# Altium schematic symbol library ushio_rp2040.SchLib: 44 symbols (part 2 of 2)
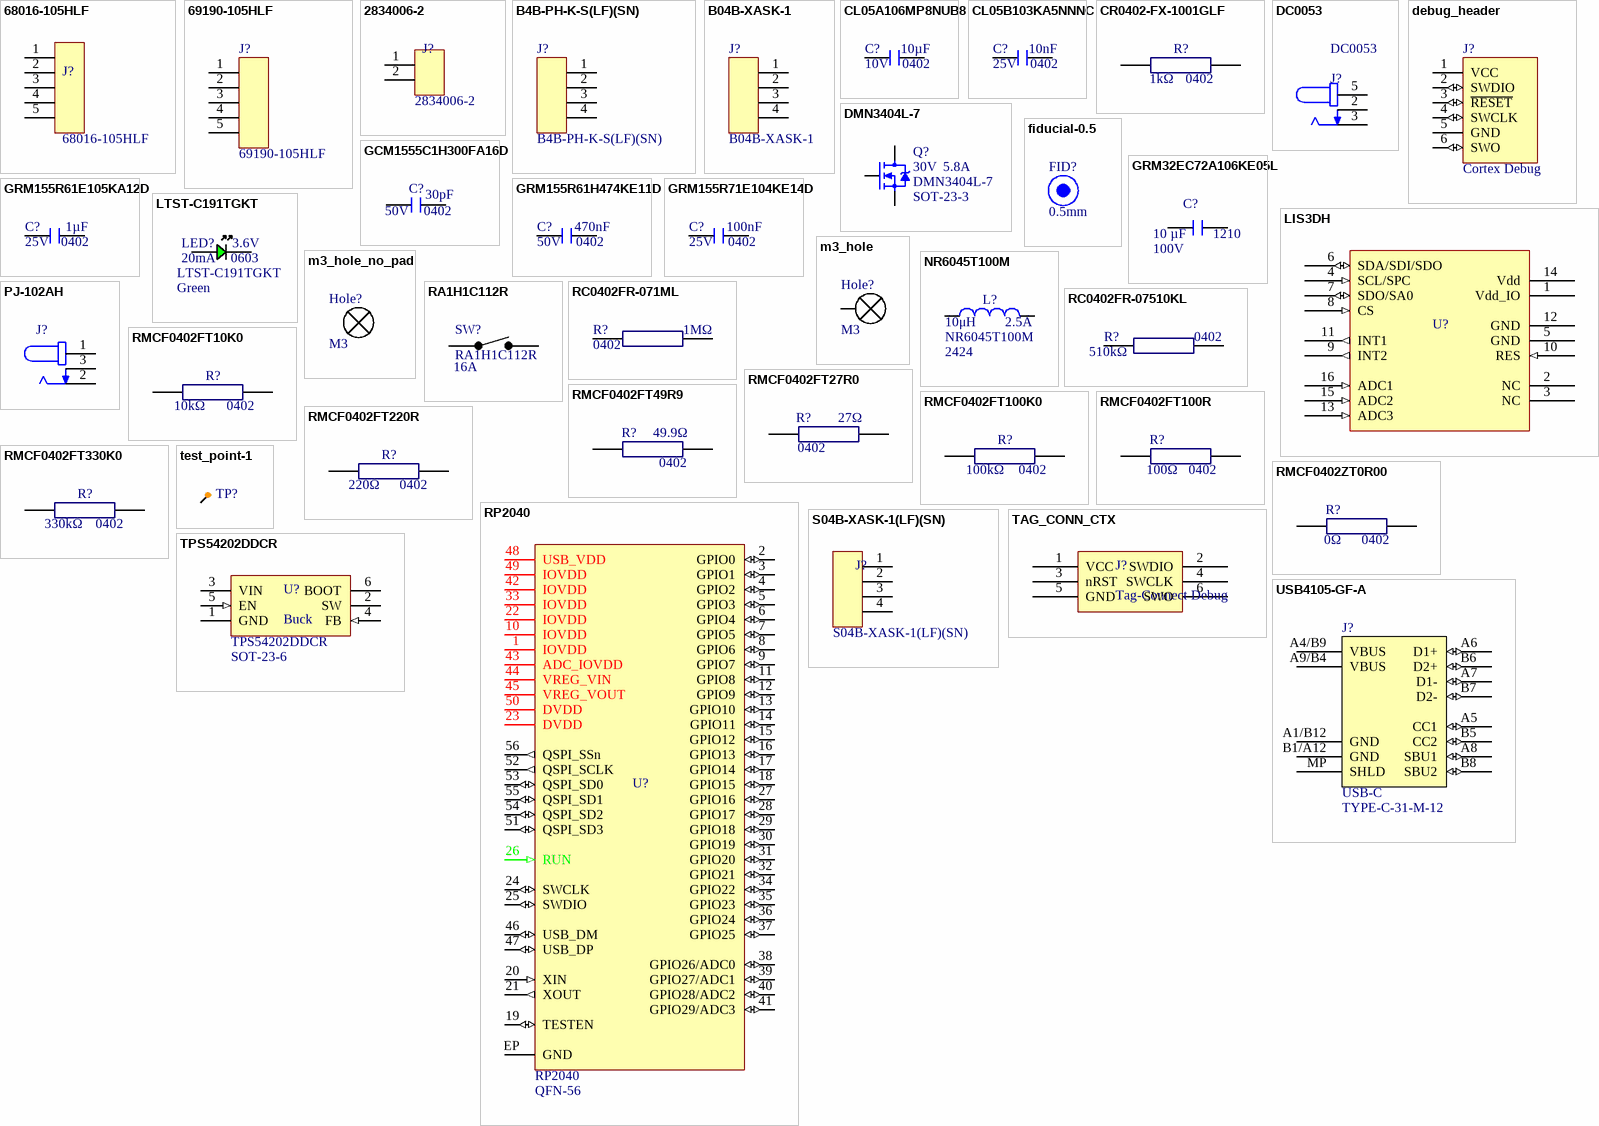
[diagram p2: symbols 68016-105HLF to USB4105-GF-A]

## RMCF0402FT220R
designator R?  Resistance: 220Ω  Case Code (Imperial): 0402  (hidden comment: RMCF0402FT220R)
220Ω, 0402 Chip resistor; Manufacturer: Stackpole Electronics; Manufacturer Part Number: RMCF0402FT390R; house_part_number: R-220-0402-1%-001; Tolerance: 1%; Max Power Dissipation: 63mW; Temperature Coefficient: 100ppm/°C; Supplier 1: Digi-Key; RoHS: Yes; Category: Chip SMD Resistors; Stock 1: 15771; Pricing 1: 1=0.10000, 10=0.01300, 100=0.00530, 1000=0.00239, 2500=0.00207, 5000=0.00171 (USD); Mount: Surface Mount; Case/Package: 0402; Case Code (Metric): 1005; Contact Plating: Tin,Matte; Min Operating Temperature: -55°C; Max Operating Temperature: 155°C; Packaging: Tape and Reel; Resistor Type: Thick Film; Number of Terminations: 2; Features: Automotive AEC-Q200; Series: RMCF; Length: 0.039inch; Width: 0.02inch; Height: 0.016inch; Radiation Hardening: No; Lead Free: Lead Free; RoHS Compliant: Yes; ComponentLink1URL: https://www.seielect.com/catalog/SEI-Packaging.pdf?src-supplier=Digi-Key; ComponentLink1Description: https://www.seielect.com/catalog/SEI-Packaging.pdf?src-supplier=Digi-Key; ComponentLink2URL: https://www.seielect.com/Catalog/SEI-RMCF_RMCP.pdf?src-supplier=Digi-Key; ComponentLink2Description: https://www.seielect.com/Catalog/SEI-RMCF_RMCP.pdf?src-supplier=Digi-Key; ComponentLink3URL: https://www.seielect.com/catalog/SEI-RMCF_RMCP.pdf?src-supplier=Avnet; ComponentLink3Description: https://www.seielect.com/catalog/SEI-RMCF_RMCP.pdf?src-supplier=Avnet; Supplier Part Number 1: RMCF0402FT390RCT-ND
footprint 0402_resistor (0402 chip resistor)
pins: 1, 2

## RMCF0402FT330K0
designator R?  Resistance: 330kΩ  Case Code (Imperial): 0402  (hidden comment: RMCF0402FT330K0)
330 kΩ, 0402 Chip resistor; Manufacturer: Stackpole Electronics; Manufacturer Part Number: RMCF0402FT390R; house_part_number: R-330k-0402-1%-001; Tolerance: 1%; Max Power Dissipation: 63mW; Temperature Coefficient: 100ppm/°C; Supplier 1: Digi-Key; RoHS: Yes; Category: Chip SMD Resistors; Stock 1: 15771; Pricing 1: 1=0.10000, 10=0.01300, 100=0.00530, 1000=0.00239, 2500=0.00207, 5000=0.00171 (USD); Mount: Surface Mount; Case/Package: 0402; Case Code (Metric): 1005; Contact Plating: Tin,Matte; Min Operating Temperature: -55°C; Max Operating Temperature: 155°C; Packaging: Tape and Reel; Resistor Type: Thick Film; Number of Terminations: 2; Features: Automotive AEC-Q200; Series: RMCF; Length: 0.039inch; Width: 0.02inch; Height: 0.016inch; Radiation Hardening: No; Lead Free: Lead Free; RoHS Compliant: Yes; ComponentLink1URL: https://www.seielect.com/catalog/SEI-Packaging.pdf?src-supplier=Digi-Key; ComponentLink1Description: https://www.seielect.com/catalog/SEI-Packaging.pdf?src-supplier=Digi-Key; ComponentLink2URL: https://www.seielect.com/Catalog/SEI-RMCF_RMCP.pdf?src-supplier=Digi-Key; ComponentLink2Description: https://www.seielect.com/Catalog/SEI-RMCF_RMCP.pdf?src-supplier=Digi-Key; ComponentLink3URL: https://www.seielect.com/catalog/SEI-RMCF_RMCP.pdf?src-supplier=Avnet; ComponentLink3Description: https://www.seielect.com/catalog/SEI-RMCF_RMCP.pdf?src-supplier=Avnet; Supplier Part Number 1: RMCF0402FT390RCT-ND
footprint 0402_resistor (0402 chip resistor)
pins: 1, 1, 2, 2

## RMCF0402ZT0R00
designator R?  Resistance: 0Ω  Case/Package: 0402  (hidden comment: RMCF0402ZT0R00)
0 Ω, 0402 Jumper; Manufacturer: Stackpole Electronics; house_part_number: JP-0402-001; Power Rating: 63mW; Current Rating: 1A; Working Voltage: 50V; Supplier 1: Digi-Key; Supplier Part Number 1: RMCF0402ZT0R00CT-ND; RoHS: Yes; Category: Chip SMD Resistors; Stock 1: 6500003; Pricing 1: 1=0.10000, 10=0.01000, 25=0.00720, 50=0.00560, 100=0.00410, 250=0.00316, 500=0.00252, 1000=0.00186, 5000=0.00133 (USD); Mount: Surface Mount; Case Code (Metric): 1005; Case Code (Imperial): 0402; Contact Plating: Tin,Matte; Min Operating Temperature: -55°C; Max Operating Temperature: 155°C; Packaging: Tape and Reel; Resistor Type: Thick Film; Number of Terminations: 2; Max Power Dissipation: 63mW; Features: Automotive AEC-Q200; Series: RMCF; Technology: THICK FILM; Construction: Rectangular; Length: 0.039inch; Width: 0.02inch; Height: 0.016inch; Depth: 0.5mm; Radiation Hardening: No; Military Standard: Not; Lead Free: Lead Free; RoHS Compliant: Yes; ComponentLink1URL: https://datasheet.ciiva.com/26835/getdatasheetpartid-409751-26835612.pdf?src-supplier=Verical; ComponentLink1Description: https://datasheet.ciiva.com/26835/getdatasheetpartid-409751-26835612.pdf?src-supplier=Verical; Manufacturer Part Number: RMCF0402ZT0R00
footprint 0402_resistor (0402 chip resistor)
pins: 1, 2

## RP2040
designator U?  Manufacturer Part Number: RP2040  Package: QFN-56
Raspberry Pi microcontroller, QFN-56; Manufacturer: Raspberry Pi; Supplier: Newark; Supplier Part Number: 49AJ8739; RoHS: No; Category: Uncategorized; Stock: 720; Pricing: 1=1 (USD)
footprint QFN-56
pins: 1 IOVDD (power), 2 GPIO0 (io), 3 GPIO1 (io), 4 GPIO2 (io), 5 GPIO3 (io), 6 GPIO4 (io), 7 GPIO5 (io), 8 GPIO6 (io), 9 GPIO7 (io), 10 IOVDD (power), 11 GPIO8 (io), 12 GPIO9 (io), 13 GPIO10 (io), 14 GPIO11 (io), 15 GPIO12 (io), 16 GPIO13 (io), 17 GPIO14 (io), 18 GPIO15 (io), 19 TESTEN (io), 20 XIN (in), 21 XOUT (out), 22 IOVDD (power), 23 DVDD (power), 24 SWCLK (io), 25 SWDIO (io), 26 RUN (in), 27 GPIO16 (io), 28 GPIO17 (io), 29 GPIO18 (io), 30 GPIO19 (io), 31 GPIO20 (io), 32 GPIO21 (io), 33 IOVDD (power), 34 GPIO22 (io), 35 GPIO23 (io), 36 GPIO24 (io), 37 GPIO25 (io), 38 GPIO26/ADC0 (io), 39 GPIO27/ADC1 (io), 40 GPIO28/ADC2 (io), 41 GPIO29/ADC3 (io), 42 IOVDD (power), 43 ADC_IOVDD (power), 44 VREG_VIN (power), 45 VREG_VOUT (power), 46 USB_DM (io), 47 USB_DP (io), 48 USB_VDD (power), 49 IOVDD (power), 50 DVDD (power), 51 QSPI_SD3 (io), 52 QSPI_SCLK (out), 53 QSPI_SD0 (io), 54 QSPI_SD2 (io), 55 QSPI_SD1 (io), 56 QSPI_SSn (out), EP GND (power)

## S04B-XASK-1(LF)(SN)
designator J?  Manufacturer Part Number: S04B-XASK-1(LF)(SN)  (hidden comment: *)
XA Series 4 Position 2.5 mm Side Entry Through-Hole Shrouded Header; Manufacturer: JST; Number of Poles: 4; Current Rating: 3A; Contact Resistance: 10mR; Voltage Rating (AC): 250V; Insulation Resistance: 1GR; Gender: Male; Pitch: 2.5mm; Wire/Cable Gauge: 20AWG; Lead Length: 3.4mm; Supplier: Arrow Electronics; Supplier Part Number: S04B-XASK-1(LF)(SN); RoHS: Yes; Category: Headers and Wire Housings; Stock: 13562; Pricing: 1=0.5096, 10=0.4564, 25=0.4517, 50=0.4469, 100=0.364, 500=0.2293 (USD); Mounting Technology: Through Hole,PCB; Pins: 4; Contact Plating: Tin; Contact Material: Copper Alloy,Tin,Bronze,Copper; Color: Beige; Material: Nylon; Contact Shape: Circular; Contact Finish - Mating: TIN; Insulation Material: Nylon; Insulation Color: Natural; Min Operating Temperature: -25°C; Max Operating Temperature: 85°C; Number of Rows: 1; Voltage Rating (DC): 250V; Voltage Rating: 250V; Termination: Solder; Number of Contacts: 4; Number of Positions: 4; Orientation: Right Angle; Series: XA; Connector Type: Header; Fastening Type: Ramp; Packaging: Bulk; Contact Type: Male Pin; Length: 12.5mm; Width: 12.6mm; Height: 7.6mm; Lead Free: Lead Free; Reach SVHC Compliant: No; Flammability Rating: UL94 V-0; ComponentLink1URL: https://datasheet.ciiva.com/29316/741407-da-01-en-stiftleiste-abgew-4-pol-rm-2-5mm-29316948.pdf?src-supplier=Conrad; ComponentLink1Description: https://datasheet.ciiva.com/29316/741407-da-01-en-stiftleiste-abgew-4-pol-rm-2-5mm-29316948.pdf?src-supplier=Conrad; ComponentLink2URL: https://datasheet.ciiva.com/8052/80585-8052159.pdf?src-supplier=Element14; ComponentLink2Description: https://datasheet.ciiva.com/8052/80585-8052159.pdf?src-supplier=Element14; ComponentLink3URL: https://datasheet.ciiva.com/16364/exa1-16364429.pdf?src-supplier=Future+Electronics; ComponentLink3Description: https://datasheet.ciiva.com/16364/exa1-16364429.pdf?src-supplier=Future+Electronics
footprint S04B-XASK-1 (JST XA 2.5mm header, right angle)
pins: 1, 2, 3, 4

## TAG_CONN_CTX
designator J?, comment Tag-Connect Debug
Mates with TC-2030-CTX; house_part_number: type-value-case-grade
footprint TAG-Connect (Debug header)
pins: 1 VCC, 2 SWDIO, 3 nRST, 4 SWCLK, 5 GND, 6 SWO

## test_point-1
designator TP?  (value not drawn)  (no BOM)
Test point; pickable: no
footprint test_point-1 (Test point)
pins: 1

## TPS54202DDCR
designator U?, comment Buck  Case/Package: SOT-23-6  Manufacturer Part Number: TPS54202DDCR
Switching Regulator, Current-mode, 2A, 500kHz Switching Freq-Max, PDSO6; Manufacturer: Texas Instruments; Package Body Material: Plastic; Control Technique: PULSE WIDTH MODULATION; Max Supply Voltage: 28V; Min Input Voltage: 4.5V; Nominal Supply Voltage: 12V; Channels: 1; Max Output current: 3.9A; Frequency: 590kHz; Supplier 1: Digi-Key; RoHS: Yes; Category: Voltage Regulators - Switching; Stock 1: 4766; Pricing 1: 1=1.29, 10=1.154, 25=1.0956, 100=0.9001, 250=0.8414, 500=0.74356, 1000=0.58702 (USD); Pins: 6; Package Shape: Rectangular; Terminal Finish: Tin; Min Operating Temperature: -40°C; Max Operating Temperature: 125°C; JESD-609 Code: e3; Throw Configuration: SWITCHING REGULATOR; Control Mode: CURRENT-MODE; JESD-30 Code: R-PDSO-G6; Moisture Sensitivity Level: 1; Package Style: SMALL OUTLINE, THIN PROFILE, SHRINK PITCHMeter; Surface Mount: Yes; Switcher Configuration: BUCK; Terminal Form: Gull Wing; Terminal Position: DUAL; Length: 2.9mm; Width: 1.6mm; Height - Seated (Max): 1.1mm; Terminal Pitch: 0.95mm; Temperature Grade: AUTOMOTIVE; Reach SVHC Compliant: Yes; RoHS Compliant: Yes; ComponentLink1URL: https://www.ti.com:443/lit/ds/symlink/tps54202.pdf?src-supplier=IHS+Markit; ComponentLink1Description: https://www.ti.com:443/lit/ds/symlink/tps54202.pdf?src-supplier=IHS+Markit; ComponentLink2URL: http://www.ti.com/general/docs/suppproductinfo.tsp?distId=10&gotoUrl=http%3A%2F%2Fwww.ti.com%2Flit%2Fgpn%2Ftps54202&src-supplier=Digi-Key; ComponentLink2Description: http://www.ti.com/general/docs/suppproductinfo.tsp?distId=10&gotoUrl=http%3A%2F%2Fwww.ti.com%2Flit%2Fgpn%2Ftps54202&src-supplier=Digi-Key; ComponentLink3URL: http://www.ti.com/lit/ds/symlink/tps54202.pdf?src-supplier=Digi-Key; ComponentLink3Description: http://www.ti.com/lit/ds/symlink/tps54202.pdf?src-supplier=Digi-Key; ComponentLink4URL: http://www.ti.com/general/docs/suppproductinfo.tsp?distId=10&amp;gotoUrl=http%3A%2F%2Fwww.ti.com%2Flit%2Fgpn%2Ftps54202&src-supplier=Digi-Key; ComponentLink4Description: http://www.ti.com/general/docs/suppproductinfo.tsp?distId=10&amp;gotoUrl=http%3A%2F%2Fwww.ti.com%2Flit%2Fgpn%2Ftps54202&src-supplier=Digi-Key; Supplier Part Number 1: 296-TPS54202DDCRDKR-ND
footprint SOT-23-6
pins: 1 GND (power) "Ground pin. Source terminal of low-side power NFET as well as the ground terminal for controller circuit. Connect sensitive VFB to this GND at a single point.", 2 SW (power) "Switch node connection between high-side NFET and low-side NFET.", 3 VIN (power) "Input voltage supply pin. The drain terminal of high-side power NFET", 4 FB (in) "Converter feedback input. Connect to output voltage with feedback resistor divider.", 5 EN (in) "This pin is the enable pin. Float the EN pin to enable.", 6 BOOT (power) "Supply input for the high-side NFET gate drive circuit. Connect a 0.1-μF capacitor between BOOT and SW pins."

## USB4105-GF-A
designator J?, comment USB-C  Manufacturer Part Number: TYPE-C-31-M-12
USB-C 2.0 Female Connector; Manufacturer: Global Connector Technology; Alternate Manufacturer: Korean HROparts Elec; Alternate Part Number: USB4105-GF-A; Connector Type: USB; Gender: Receptacle; Mating Cycles: 10000; Shielding: Shielded; Number of Ports: 1; Supplier: Farnell; Supplier Part Number: 3588205; RoHS: No; Category: USB Connectors; Stock: 1499; Pricing: 1=1, 20=3.07, 60=3.02, 160=2.64, 400=2.63 (EUR); Mounting Technology: Surface Mount,Through Hole,Horizontal; Contact Plating: Gold; Insulation Color: Black; Min Operating Temperature: -40°C; Max Operating Temperature: 85°C; Series: USB4105; Termination: Solder; Flammability Rating: UL94 V-0; ComponentLink1URL: https://gct.co/files/drawings/usb4105.pdf?src-supplier=Digi-Key; ComponentLink1Description: https://gct.co/files/drawings/usb4105.pdf?src-supplier=Digi-Key
footprint USB_C_2.0_M12 (HRO M12/GCT 4105 USB-C 2.0 CONNECTOR)
pins: A1/B12 GND (power) "Ground", A4/B9 VBUS (power) "Bus Power", A5 CC1 (io) "Configuration channel", A6 D1+ (io) "USB 2.0 differential pair, position 1, positive", A7 D1- (io) "USB 2.0 differential pair, position 1, negative", A8 SBU1 (io) "Sideband use", A9/B4 VBUS (power) "Bus Power", B1/A12 GND (power) "Ground", B5 CC2 (io) "Configuration channel", B6 D2+ (io) "USB 2.0 differential pair, position 2, positive", B7 D2- (io) "USB 2.0 differential pair, position 2, negative", B8 SBU2 (io) "Sideband use", MP SHLD

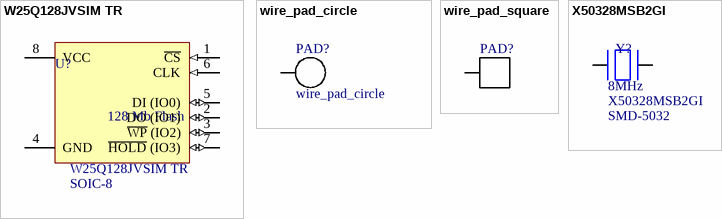
[diagram p1: symbols W25Q128JVSIM TR to X50328MSB2GI]

## W25Q128JVSIM TR
designator U?, comment 128 Mb Flash  Manufacturer Part Number: W25Q128JVSIM TR  Case/Package: SOIC-8
128Mb SPI flash memory; Manufacturer: Winbond; house_part_number: W25Q128JVSIM; Memory Type: Non-Volatile,FLASH; Frequency: 133MHz; Supplier 1: Digi-Key; Stock 1: 0; Pricing 1: 1=1.69, 10=1.545, 25=1.5028, 50=1.495, 100=1.3364, 250=1.3325, 500=1.3124, 1000=1.2567 (USD); Mount: Surface Mount; Number of Pins: 8; Min Operating Temperature: -40°C; Max Operating Temperature: 85°C; Packaging: Cut Tape; Memory Size: 128Mb; ComponentLink1URL: http://www.winbond.com/resource-files/w25q128jv_dtr%20revc%2003272018%20plus.pdf?src-supplier=Digi-Key; ComponentLink1Description: http://www.winbond.com/resource-files/w25q128jv_dtr%20revc%2003272018%20plus.pdf?src-supplier=Digi-Key; Supplier Part Number 1: W25Q128JVSIMCT-ND
footprint SOIC-8_wide
pins: 1 ~{CS} (in), 2 DO (IO1) (io), 3 ~{WP} (IO2) (io), 4 GND (power), 5 DI (IO0) (io), 6 CLK (in), 7 ~{HOLD} (IO3) (io), 8 VCC (power)

## wire_pad_circle
designator PAD?  (no BOM)
1.5mm circular wire pad; pickable: no
footprint WIRE_PAD_CIRCLE
pins: 1

## wire_pad_square
designator PAD?  (value not drawn)  (no BOM)
1.5mm square wire pad; pickable: no
footprint WIRE_PAD_SQUARE
pins: 1

## X50328MSB2GI
designator Y?  Frequency: 8MHz  Package: SMD-5032  Manufacturer Part Number: X50328MSB2GI  (hidden comment: *)
8 MHz crystal, 20 pF, ±50ppm, SMD-5032; Manufacturer: YXC; Supplier 1: LCSC; RoHS: No; Stock 1: 138605; Pricing 1: 5=0.1818, 50=0.1439, 150=0.1254, 1000=0.1089, 2000=0.1043, 5000=0.1016 (USD); Supplier Part Number 1: C115962
footprint SMD-5032
pins: 1, 2